# Altium footprint library tiny200r3.PcbLib: 25 footprints (part 1 of 2)
Each footprint in its own frame and in the unit in brackets; x right, y up, seen from the top. Pads: shape width x height; smd on the part's side, far side on the other; paste and mask are expansions set on the pad; w line width, h text height; cw(c..) or ccw(c..) is an arc to the next point about the centre after c.
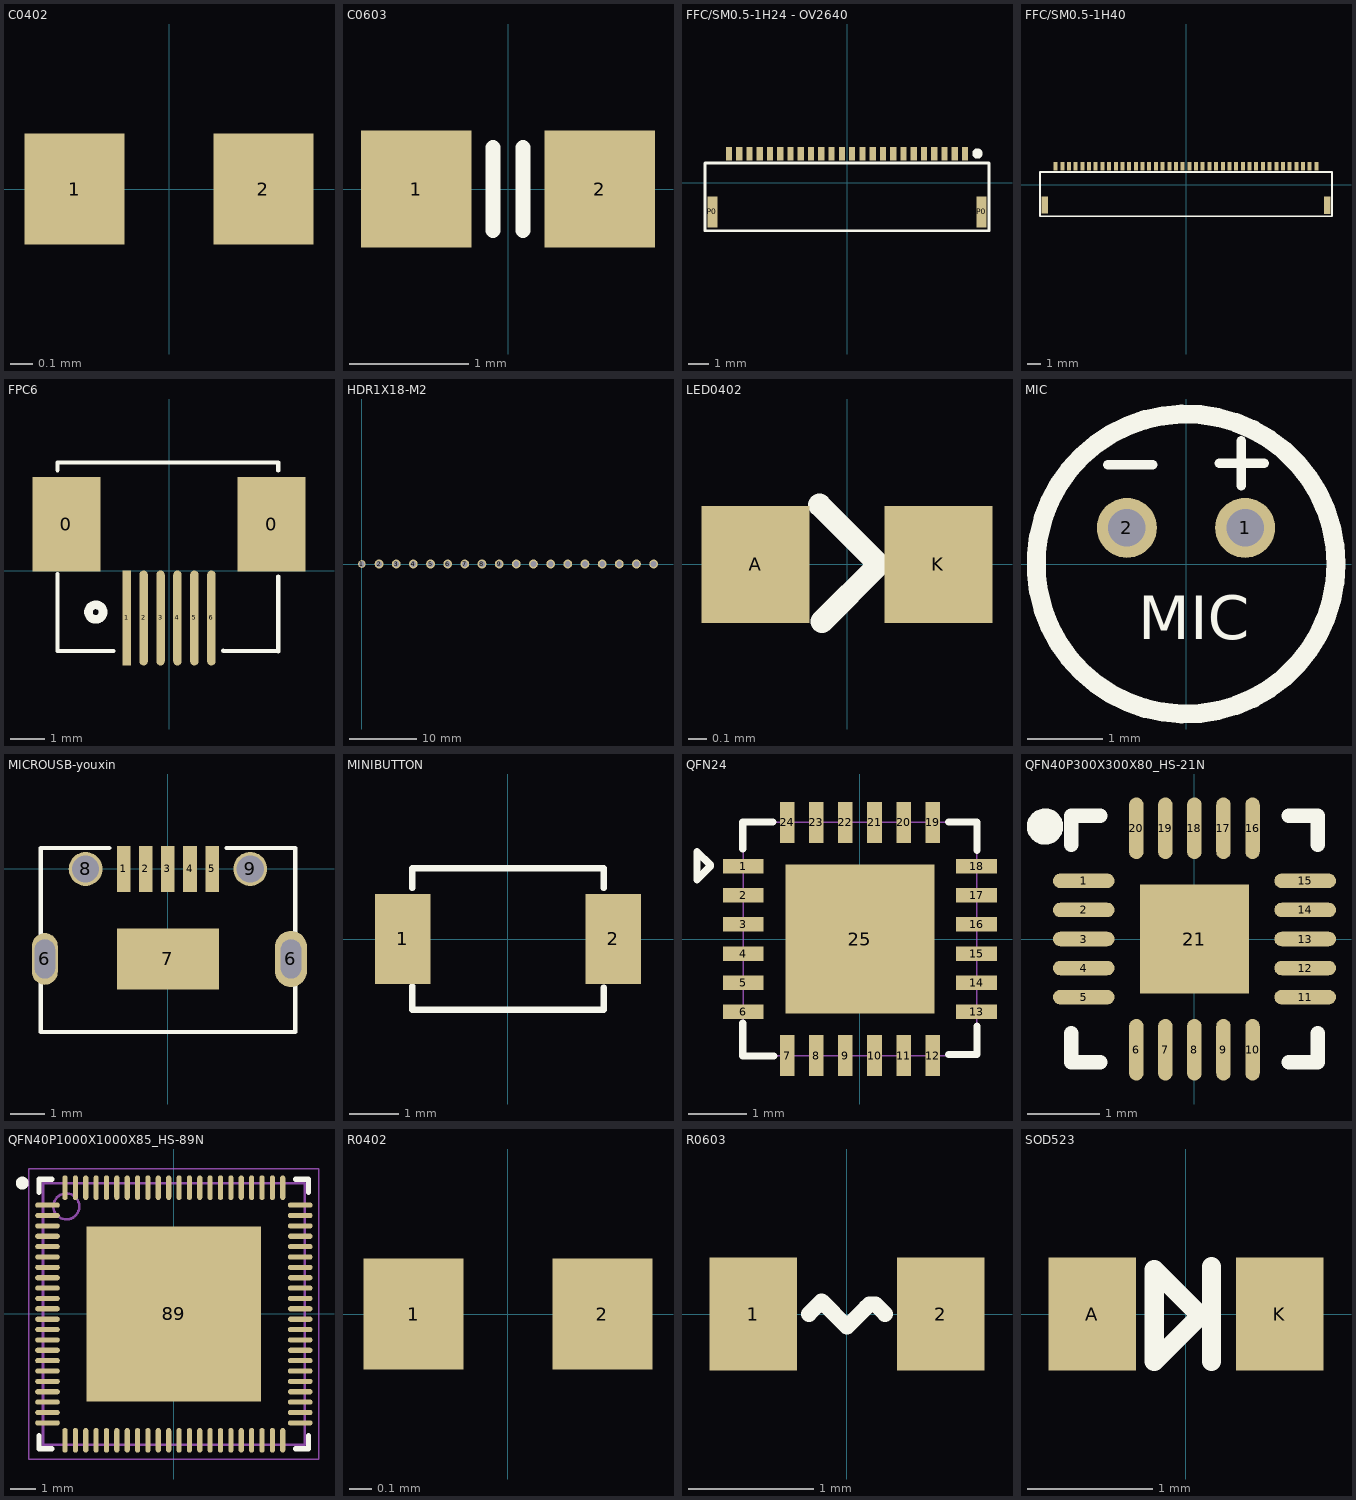
[diagram p0: the footprints below, top view; thin cyan lines are the x and y axes]

## C0402 [mm]
height 0.635
pads (2):
  rect 0.45x0.5 smd mask+0.051: 1(-0.425,0) 2(0.425,0)
3D body "0402 SMD Capacitor.step": height 0.2, standoff 0, extent -0.483,-0.3 0.518,0.3

## C0603 [mm]
height 0.965
pads (2):
  rect 0.93x0.98 smd: 1(-0.77,0) 2(0.77,0)
Top Overlay:
  lines w0.127: -0.127,-0.35 -0.127,0.35 ; 0.127,-0.35 0.127,0.35
3D body "User Library-0603 SMD Capacitor.STEP": height 0.3, standoff 0, extent -0.8,-0.4 0.8,0.4

## FFC/SM0.5-1H24 - OV2640 [mm] "Connector; FH12 Series; 24 Position; 0.5mm Spaced Bottom Contact"
height 1
pads (26):
  rect 0.3x0.65 smd: 1(5.75,1.405) 2(5.25,1.405) 3(4.75,1.405) 4(4.25,1.405) 5(3.75,1.405) 6(3.25,1.405) 7(2.75,1.405) 8(2.25,1.405) 9(1.75,1.405) 10(1.25,1.405) 11(0.75,1.405) 12(0.25,1.405) 13(-0.25,1.405) 14(-0.75,1.405) 15(-1.25,1.405) 16(-1.75,1.405) 17(-2.25,1.405) 18(-2.75,1.405) 19(-3.25,1.405) 20(-3.75,1.405) 21(-4.25,1.405) 22(-4.75,1.405) 23(-5.25,1.405) 24(-5.75,1.405)
  rect 0.5x1.5 smd: P0(-6.553,-1.422) P0(6.553,-1.422)
Top Overlay:
  circle w0.25: c6.35,1.422 r0.125
  lines w0.127: -6.915,-2.339 -6.915,0.961 6.915,0.961 6.915,-2.339 -6.915,-2.339

## FFC/SM0.5-1H40 [mm] "Connector; FH12 Series; 40 Position; 0.5mm Spaced Bottom Contact"
height 1
pads (42):
  rect 0.3x0.65 smd: 1(-9.75,1.405) 2(-9.25,1.405) 3(-8.75,1.405) 4(-8.25,1.405) 5(-7.75,1.405) 6(-7.25,1.405) 7(-6.75,1.405) 8(-6.25,1.405) 9(-5.75,1.405) 10(-5.25,1.405) 11(-4.75,1.405) 12(-4.25,1.405) 13(-3.75,1.405) 14(-3.25,1.405) 15(-2.75,1.405) 16(-2.25,1.405) 17(-1.75,1.405) 18(-1.25,1.405) 19(-0.75,1.405) 20(-0.25,1.405) 21(0.25,1.405) 22(0.75,1.405) 23(1.25,1.405) 24(1.75,1.405) 25(2.25,1.405) 26(2.75,1.405) 27(3.25,1.405) 28(3.75,1.405) 29(4.25,1.405) 30(4.75,1.405) 31(5.25,1.405) 32(5.75,1.405) 33(6.25,1.405) 34(6.75,1.405) 35(7.25,1.405) 36(7.75,1.405) 37(8.25,1.405) 38(8.75,1.405) 39(9.25,1.405) 40(9.75,1.405)
  rect 0.5x1.3 smd: G(-10.566,-1.499) G(10.566,-1.524)
Top Overlay:
  lines w0.127: -10.915,-2.339 -10.915,0.961 10.915,0.961 10.915,-2.339 -10.915,-2.339

## FPC6 [mm]
pads (8):
  rect 2x2.8 smd: 0(-3.023,1.372) 0(3.023,1.372)
  rect 0.25x2.8 smd: 1(-1.25,-1.392)
  oval 0.25x2.8 smd: 2(-0.75,-1.392) 3(-0.25,-1.392) 4(0.25,-1.392) 5(0.75,-1.392) 6(1.25,-1.392)
Top Overlay:
  circle w0.254: c-2.159,-1.219 r0.216
  lines w0.127: -3.287,-0.096 -3.287,-2.367 -1.636,-2.367 ; -3.287,2.962 -3.287,3.19 3.223,3.19 3.223,2.957 ; 1.6,-2.362 3.223,-2.367 ; 3.223,-2.38 3.223,-0.17

## HDR1X18-M2 [mm]
pads (18):
  round 1.143 hole 0.85: 1(0,0)
  round 1.3 hole 0.85: 2(2.54,0) 3(5.08,0) 4(7.62,0) 5(10.16,0) 6(12.7,0) 7(15.24,0) 8(17.78,0) 9(20.32,0) 10(22.86,0) 11(25.4,0) 12(27.94,0) 13(30.48,0) 14(33.02,0) 15(35.56,0) 16(38.1,0) 17(40.64,0) 18(43.18,0)

## LED0402 [mm]
pads (2):
  rect 0.6x0.65 smd: A(-0.508,0) K(0.508,0)
Top Overlay:
  lines w0.127: -0.152,0.33 0.178,0 -0.14,-0.318

## MIC [mm]
pads (2):
  round 0.8 hole 0.5: 1(0.787,0.483) 2(-0.787,0.483)
Top Overlay:
  circle w0.254: c0,0 r2
  lines w0.127: -1.041,1.321 -0.441,1.321 ; 0.441,1.346 1.041,1.346 ; 0.737,1.041 0.737,1.641
  text "MIC" at -0.635,-1.194 h1

## MICROUSB-youxin [mm] "MICROUSB-youxin"
height 2
pads (10):
  rect 0.4x1.35 smd: 1(-1.3,0) 2(-0.65,0) 3(0,0) 4(0.65,0) 5(1.3,0)
  oval 0.762x1.524 hole 0.6 slot 1.15 at 90 deg: 6(-3.625,-2.65)
  oval 0.94x1.65 hole 0.6 slot 1.15 at 90 deg: 6(3.625,-2.65)
  rect 3x1.8 smd: 7(0,-2.65)
  round 1 hole 0.8: 8(-2.425,0) 9(2.425,0)
Top Overlay:
  lines w0.127: -1.725,0.62 -3.75,0.62 -3.75,-4.8 3.75,-4.8 3.75,0.62 1.725,0.62

## MINIBUTTON [mm] "MINIBUTTON"
height 2
pads (2):
  rect 1.14x1.83 smd: 1(-2.144,0.002) 2(2.156,0.002)
Top Overlay:
  lines w0.127: -1.95,-0.963 -1.95,-1.446 1.962,-1.446 1.962,-0.989 ; -1.95,1.043 -1.95,1.45 1.962,1.45 1.962,1.043

## QFN24 [mm]
height 1.2
pads (25):
  rect 0.7x0.25 smd: 1(-2,1.25) 2(-2,0.75) 3(-2,0.25) 4(-2,-0.25) 5(-2,-0.75) 6(-2,-1.25) 13(2,-1.25) 14(2,-0.75) 15(2,-0.25) 16(2,0.25) 17(2,0.75) 18(2,1.25)
  rect 0.25x0.7 smd: 7(-1.25,-2) 8(-0.75,-2) 9(-0.25,-2) 10(0.25,-2) 11(0.75,-2) 12(1.25,-2) 19(1.25,2) 20(0.75,2) 21(0.25,2) 22(-0.25,2) 23(-0.75,2) 24(-1.25,2)
  rect 2.55x2.55 smd: 25(0,0)
Top Overlay:
  lines w0.127: -2.007,-1.448 -2.007,-2.007 -1.473,-2.007 ; -2.007,1.549 -2.007,2.007 -1.499,2.007 ; 1.524,-1.981 2.007,-1.981 2.007,-1.499 ; 1.524,2.007 2.007,2.007 2.007,1.524 ; -2.794,1.016 -2.565,1.245 -2.565,1.27 -2.794,1.499 -2.794,1.016
Mechanical 13:
  lines w0.025: -2,-2 -2,2 2,2 2,-2 -2,-2

## QFN40P300X300X80_HS-21N [mm] "QFN, 20-Leads, Body 3.00x3.00mm, Pitch 0.40mm, Thermal Pad 1.65x1.65mm, IPC Medium Density"
height 0.8
pads (21):
  oval 0.85x0.2 smd: 1(-1.525,0.8) 2(-1.525,0.4) 3(-1.525,0) 4(-1.525,-0.4) 5(-1.525,-0.8) 11(1.525,-0.8) 12(1.525,-0.4) 13(1.525,0) 14(1.525,0.4) 15(1.525,0.8)
  oval 0.2x0.85 smd: 6(-0.8,-1.525) 7(-0.4,-1.525) 8(0,-1.525) 9(0.4,-1.525) 10(0.8,-1.525) 16(0.8,1.525) 17(0.4,1.525) 18(0,1.525) 19(-0.4,1.525) 20(-0.8,1.525)
  rect 1.5x1.5 smd: 21(0,0)
Top Overlay:
  circle w0.25: c-2.057,1.549 r0.125
  lines w0.2: -1.7,-1.3 -1.7,-1.7 -1.3,-1.7 ; -1.7,1.3 -1.7,1.7 -1.3,1.7 ; 1.3,-1.7 1.7,-1.7 1.7,-1.3 ; 1.3,1.7 1.7,1.7 1.7,1.3
3D body: height 0.8, standoff 0.05, extent -1.55,-1.55 1.55,1.55

## QFN40P1000X1000X85_HS-89N [mm] "QFN, 88-Leads, Body 10.00x10.00mm, Pitch 0.40mm, Thermal Pad 6.74x6.74mm, IPC Medium Density"
height 0.85
pads (89):
  oval 0.95x0.2 smd: 1(-4.875,4.2) 2(-4.875,3.8) 3(-4.875,3.4) 4(-4.875,3) 5(-4.875,2.6) 6(-4.875,2.2) 7(-4.875,1.8) 8(-4.875,1.4) 9(-4.875,1) 10(-4.875,0.6) 11(-4.875,0.2) 12(-4.875,-0.2) 13(-4.875,-0.6) 14(-4.875,-1) 15(-4.875,-1.4) 16(-4.875,-1.8) 17(-4.875,-2.2) 18(-4.875,-2.6) 19(-4.875,-3) 20(-4.875,-3.4) 21(-4.875,-3.8) 22(-4.875,-4.2) 45(4.875,-4.2) 46(4.875,-3.8) 47(4.875,-3.4) 48(4.875,-3) 49(4.875,-2.6) 50(4.875,-2.2) 51(4.875,-1.8) 52(4.875,-1.4) 53(4.875,-1) 54(4.875,-0.6) 55(4.875,-0.2) 56(4.875,0.2) 57(4.875,0.6) 58(4.875,1) 59(4.875,1.4) 60(4.875,1.8) 61(4.875,2.2) 62(4.875,2.6) 63(4.875,3) 64(4.875,3.4) 65(4.875,3.8) 66(4.875,4.2)
  oval 0.2x0.95 smd: 23(-4.2,-4.875) 24(-3.8,-4.875) 25(-3.4,-4.875) 26(-3,-4.875) 27(-2.6,-4.875) 28(-2.2,-4.875) 29(-1.8,-4.875) 30(-1.4,-4.875) 31(-1,-4.875) 32(-0.6,-4.875) 33(-0.2,-4.875) 34(0.2,-4.875) 35(0.6,-4.875) 36(1,-4.875) 37(1.4,-4.875) 38(1.8,-4.875) 39(2.2,-4.875) 40(2.6,-4.875) 41(3,-4.875) 42(3.4,-4.875) 43(3.8,-4.875) 44(4.2,-4.875) 67(4.2,4.875) 68(3.8,4.875) 69(3.4,4.875) 70(3,4.875) 71(2.6,4.875) 72(2.2,4.875) 73(1.8,4.875) 74(1.4,4.875) 75(1,4.875) 76(0.6,4.875) 77(0.2,4.875) 78(-0.2,4.875) 79(-0.6,4.875) 80(-1,4.875) 81(-1.4,4.875) 82(-1.8,4.875) 83(-2.2,4.875) 84(-2.6,4.875) 85(-3,4.875) 86(-3.4,4.875) 87(-3.8,4.875) 88(-4.2,4.875)
  rect 6.74x6.74 smd: 89(0,0)
Top Overlay:
  circle w0.25: c-5.85,5.05 r0.125
  lines w0.2: -5.2,-4.7 -5.2,-5.2 -4.7,-5.2 ; -5.2,4.7 -5.2,5.2 -4.7,5.2 ; 4.7,-5.2 5.2,-5.2 5.2,-4.7 ; 4.7,5.2 5.2,5.2 5.2,4.7
Mechanical 13:
  circle w0.1: c-4.15,4.15 r0.5
  lines w0.1: -5.05,-5.05 -5.05,5.05 5.05,5.05 5.05,-5.05 -5.05,-5.05
Mechanical 15:
  lines w0.05: -5.6,-5.6 -5.6,5.6 5.6,5.6 5.6,-5.6 -5.6,-5.6
  lines w0.1: -0.5,0 0.5,0 ; 0,-0.5 0,0.5
3D body: height 0.85, standoff 0.02, extent -5.05,-5.05 5.05,5.05

## R0402 [mm]
height 0.635
pads (2):
  rect 0.45x0.5 smd mask+0.051: 1(-0.425,0) 2(0.425,0)
3D body "R0402.STEP": height 0.35, standoff 0, extent -0.475,-0.254 0.525,0.246

## R0603 [mm]
height 0.965
pads (2):
  rect 0.7x0.9 smd: 1(-0.75,0) 2(0.75,0)
Top Overlay:
  lines w0.127: -0.305,0 -0.203,0.102 0,-0.102 0.152,0.051 0.178,0.076 0.229,0.076 0.305,0
3D body "User Library-0603 SMD Resistor.STEP": height 0.3, standoff 0, extent -0.8,-0.4 0.8,0.4

## SOD523 [mm]
height 0.7
pads (2):
  rect 0.7x0.9 smd: A(-0.75,0) K(0.75,0)
Top Overlay:
  lines w0.152: 0.203,-0.381 0.203,0.381 ; -0.254,-0.381 -0.254,0.356 0.102,0 0.102,-0.025 -0.254,-0.381